# EAGLE library part IR2110 (library trainlib)
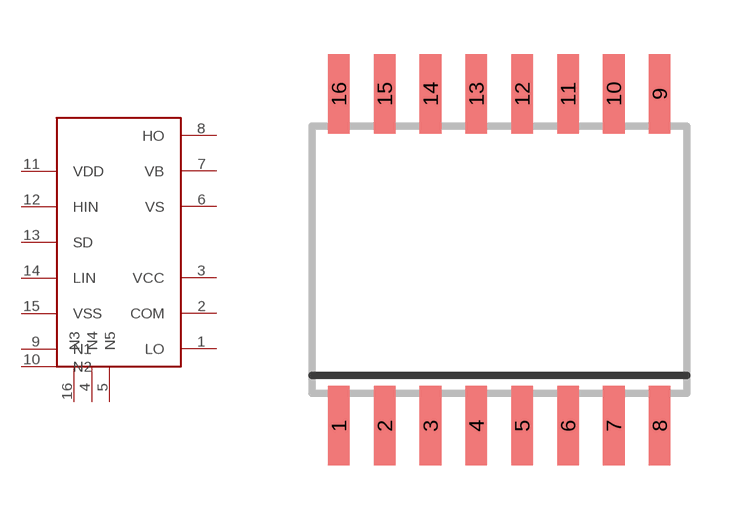
[diagram p4: symbol with the pads of SO-16DW; footprint SO-16DW]

Designator prefix -

## IR2110  [SO-16DW]
1  LO
2  COM
3  VCC
4  N4
5  N5
6  VS
7  VB
8  HO
9  N1
10  N2
11  VDD
12  HIN
13  SD
14  LIN
15  VSS
16  N3

## Footprint SO-16DW (pad centres in mm)
DW (RPDSO-G16) Source: http://focus.ti.com/lit/ds/symlink/iso1176.pdf
smd 0.6 x 2.2: 1 -4.445,-4.6; 2 -3.175,-4.6; 3 -1.905,-4.6; 4 -0.635,-4.6; 5 0.635,-4.6; 6 1.905,-4.6; 7 3.175,-4.6; 8 4.445,-4.6; 9 4.445,4.6; 10 3.175,4.6; 11 1.905,4.6; 12 0.635,4.6; 13 -0.635,4.6; 14 -1.905,4.6; 15 -3.175,4.6; 16 -4.445,4.6